# EAGLE library part SHT31-D (library awqua_eagle_library)
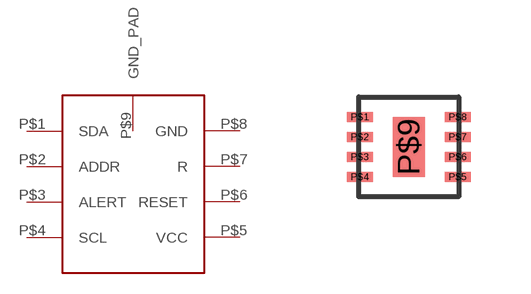
[diagram p23: symbol with the pads of SHT31-D; footprint SHT31-D]

Designator prefix -

## SHT31-D  [SHT31-D]
P$1  SDA
P$2  ADDR
P$3  ALERT
P$4  SCL
P$5  VCC
P$6  RESET
P$7  R
P$8  GND
P$9  GND_PAD

## Footprint SHT31-D (pad centres in mm)
smd 0.65 x 0.25: P$1 0.025,2; P$2 0.025,1.5; P$3 0.025,1; P$4 0.025,0.5; P$5 2.475,0.5; P$6 2.475,1; P$7 2.475,1.5; P$8 2.475,2
smd 0.8 x 1.5: P$9 1.25,1.25